# Altium schematic symbol library PMEG4050EP,115.SchLib: 1 symbol
Pins are listed as number, name and electrical type; pins without a type are passive.

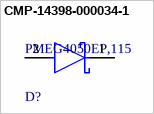
[diagram p0: symbol CMP-14398-000034-1]

## CMP-14398-000034-1
designator D?, comment PMEG4050EP,115
DIODE SCHOTTKY 40V 5A CFP5; RoHS Compliant: Yes
footprint FP-SOD128-MFG
pins: 1 K, 2 A